# Altium footprint library GPS.PcbLib: 1 footprints
Each footprint in its own frame and in the unit in brackets; x right, y up, seen from the top. Pads: shape width x height; smd on the part's side, far side on the other; paste and mask are expansions set on the pad; w line width, h text height; cw(c..) or ccw(c..) is an arc to the next point about the centre after c.
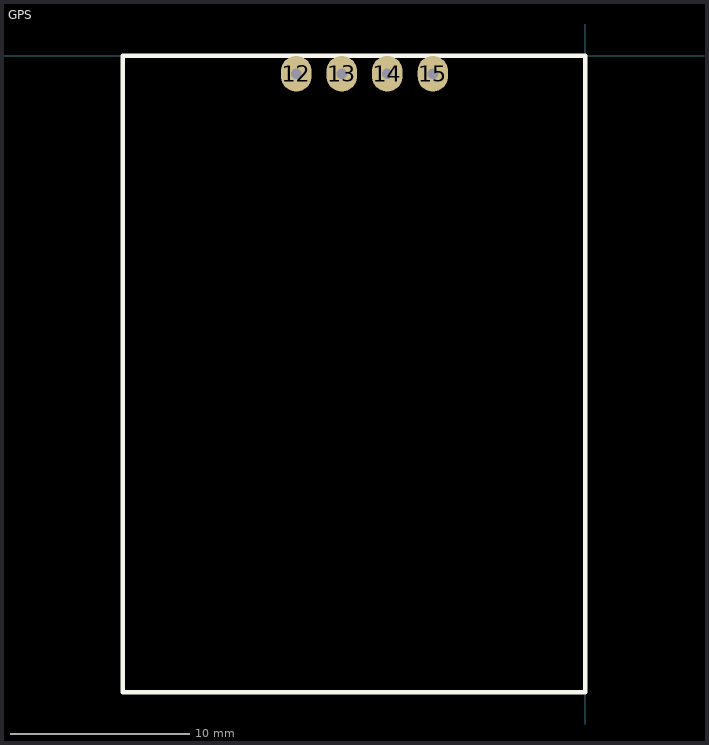
[diagram p0: the footprint, top view; thin cyan lines are the x and y axes]

## GPS [mm]
pads (4):
  oval 1.7x2 hole 0.6: 12(-16.12,-1) 13(-13.58,-1) 14(-11.04,-1) 15(-8.5,-1)
Top Overlay:
  lines w0.254: -25.8,-35.5 -25.8,0 0,0 0,-35.5 -25.8,-35.5
3D body "ublox NEO-6M.STEP": height 20.61, standoff -2, extent -25.019,-47.983 13.711,-0.127